# EAGLE library part LTC485CN8 (library My lib)
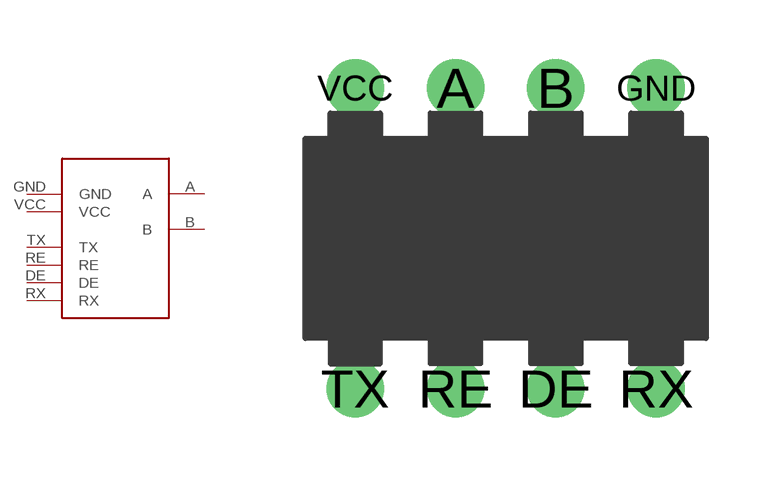
[diagram p3: symbol with the pads of LTC485CN8; footprint LTC485CN8]

Designator prefix -

## LTC485CN8  [LTC485CN8]
A  A  in
B  B  in
DE  DE  in
GND  GND  in
RE  RE  in
RX  RX  in
TX  TX  in
VCC  VCC  in

## Footprint LTC485CN8 (pad centres in mm)
drill 0.95: A 2.54,7.62; B 5.08,7.62; DE 5.08,0; GND 7.62,7.62; RE 2.54,0; RX 7.62,0; TX 0,0; VCC 0,7.62